# Altium schematic symbol library SamacSys.SchLib: 15 symbols
Pins are listed as number, name and electrical type; pins without a type are passive.

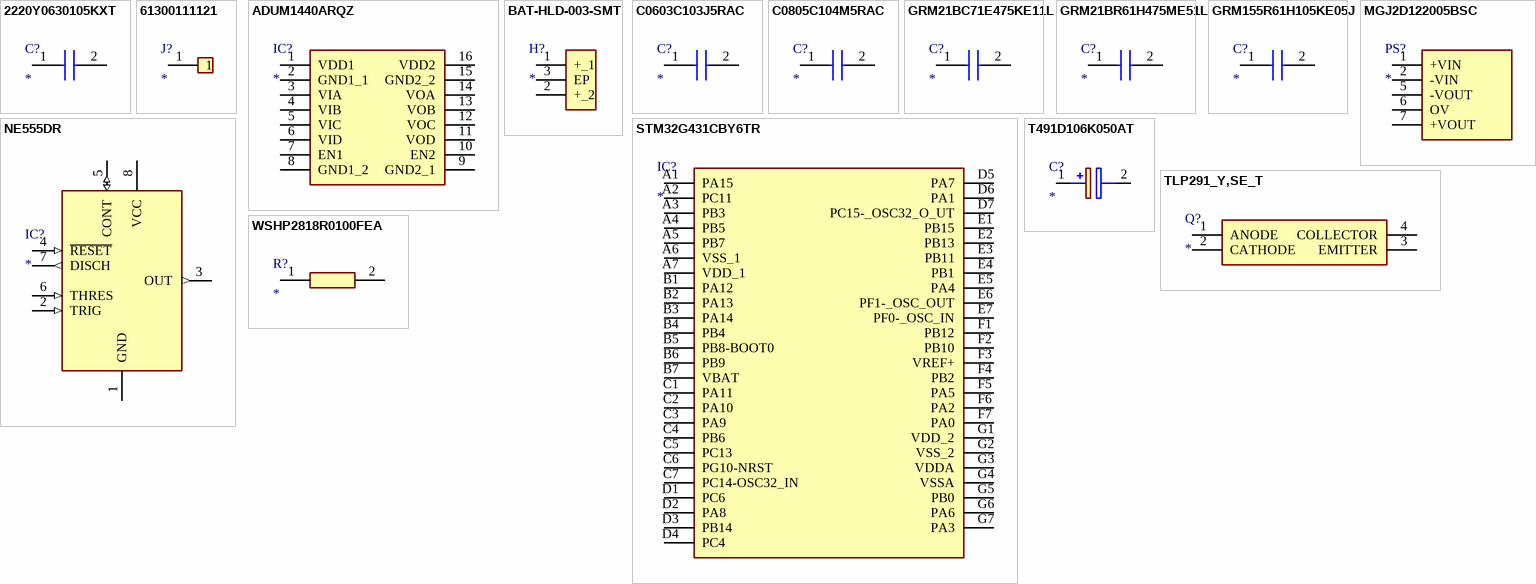
[diagram p0: symbols 2220Y0630105KXT to WSHP2818R0100FEA]

## 2220Y0630105KXT
designator C?
Capacitor; Manufacturer_Name: Knowles; Manufacturer_Part_Number: 2220Y0630105KXT; Datasheet Link: https://www.arrow.com/en/products/2220y0630105kxt/syfer-technology; Height: 4.2mm; Mouser Part Number: 843-2220Y0630105KX; Mouser Price/Stock: https://www.mouser.co.uk/ProductDetail/Knowles-Syfer/2220Y0630105KXT?qs=yIvl1B2wDi4MJafAlAFXPQ%3D%3D; Arrow Part Number: 2220Y0630105KXT; Arrow Price/Stock: https://www.arrow.com/en/products/2220y0630105kxt/syfer-technology
footprint CAPC5750X420N
pins: 1, 2

## 61300111121
designator J?
Connector; Manufacturer_Name: Wurth Elektronik; Manufacturer_Part_Number: 61300111121; Datasheet Link: https://katalog.we-online.de/em/datasheet/6130xx11121.pdf; Height: 8.89mm; Mouser Part Number: 710-61300111121; Mouser Price/Stock: https://www.mouser.co.uk/ProductDetail/Wurth-Elektronik/61300111121?qs=PhR8RmCirEaRH5Ck%252B2lRLQ%3D%3D
footprint 61300111121
pins: 1

## ADUM1440ARQZ
designator IC?
Integrated Circuit; Manufacturer_Name: Analog Devices; Manufacturer_Part_Number: ADUM1440ARQZ; Datasheet Link: https://componentsearchengine.com/Datasheets/2/ADUM1440ARQZ.pdf; Height: 1.75mm; Mouser Part Number: 584-ADUM1440ARQZ; Mouser Price/Stock: https://www.mouser.co.uk/ProductDetail/Analog-Devices/ADUM1440ARQZ?qs=613q%2FuFLIwR2r1IGUGbFKA%3D%3D; Arrow Part Number: ADUM1440ARQZ; Arrow Price/Stock: https://www.arrow.com/en/products/adum1440arqz/analog-devices?region=europe
footprint SOP64P600X175-16N
pins: 1 VDD1, 2 GND1_1, 3 VIA, 4 VIB, 5 VIC, 6 VID, 7 EN1, 8 GND1_2, 9 GND2_1, 10 EN2, 11 VOD, 12 VOC, 13 VOB, 14 VOA, 15 GND2_2, 16 VDD2

## BAT-HLD-003-SMT
designator H?
Hardware; Manufacturer_Name: TE Connectivity; Manufacturer_Part_Number: BAT-HLD-003-SMT; Datasheet Link: https://www.te.com/commerce/DocumentDelivery/DDEController?Action=srchrtrv&DocNm=C-BAT-HLD-003-SMT&DocType=Customer%20Drawing&DocLang=English&DocFormat=pdf&PartCntxt=BAT-HLD-003-SMT; Height: 4.1mm; Mouser Part Number: 712-BAT-HLD-003-SMT; Mouser Price/Stock: https://www.mouser.co.uk/ProductDetail/TE-Connectivity-Linx-Technologies/BAT-HLD-003-SMT?qs=TuK3vfAjtkVRZQIT6eTqjQ%3D%3D; Arrow Part Number: BAT-HLD-003-SMT; Arrow Price/Stock: https://www.arrow.com/en/products/bat-hld-003-smt/te-connectivity?utm_currency=USD&region=nac
footprint BATHLD003SMT
pins: 1 +_1, 2 +_2, 3 EP

## C0603C103J5RAC
designator C?
Capacitor; Manufacturer_Name: KEMET; Manufacturer_Part_Number: C0603C103J5RAC; Datasheet Link: https://www.kemet.com/specsheet/C0603C103J5RAC%7BBULK%7D; Height: 0.87mm; Mouser Part Number: 80-C0603C103J5RAC; Mouser Price/Stock: https://www.mouser.co.uk/ProductDetail/KEMET/C0603C103J5RAC?qs=Zjfhvh7dXTOjKlZBdCXdvg%3D%3D; Arrow Part Number: C0603C103J5RAC; Arrow Price/Stock: https://www.arrow.com/en/products/c0603c103j5rac/kemet-corporation?region=nac
footprint CAPC1608X87N
pins: 1, 2

## C0805C104M5RAC
designator C?
Capacitor; Manufacturer_Name: KEMET; Manufacturer_Part_Number: C0805C104M5RAC; Datasheet Link: https://connect.kemet.com:7667/gateway/IntelliData-ComponentDocumentation/1.0/download/specsheet/C0805C104M5RAC%7bBULK%7d; Height: 0.88mm; Mouser Part Number: 80-C0805C104M5RAC; Mouser Price/Stock: https://www.mouser.co.uk/ProductDetail/KEMET/C0805C104M5RAC?qs=VOOUd%252Bza08rWzt4y8eXMuQ%3D%3D; Arrow Part Number: C0805C104M5RAC; Arrow Price/Stock: https://www.arrow.com/en/products/c0805c104m5rac/kemet-corporation?utm_currency=USD&region=nac
footprint CAPC2012X88N
pins: 1, 2

## GRM21BC71E475KE11L
designator C?
Capacitor; Manufacturer_Name: Murata Electronics; Manufacturer_Part_Number: GRM21BC71E475KE11L; Datasheet Link: https://search.murata.co.jp/Ceramy/image/img/A01X/G101/ENG/GRM21BC71E475KE11-01A.pdf; Height: 1.45mm; Mouser Part Number: 81-GRM21BC71E475KE1L; Mouser Price/Stock: https://www.mouser.co.uk/ProductDetail/Murata-Electronics/GRM21BC71E475KE11L?qs=hNud%2FORuBR02yf5e5nzFMA%3D%3D; Arrow Part Number: GRM21BC71E475KE11L; Arrow Price/Stock: https://www.arrow.com/en/products/grm21bc71e475ke11l/murata-manufacturing
footprint CAPC2012X145N
pins: 1, 2

## GRM21BR61H475ME51L
designator C?
Capacitor; Manufacturer_Name: Murata Electronics; Manufacturer_Part_Number: GRM21BR61H475ME51L; Description: Multilayer Ceramic Capacitors MLCC - SMD/SMT 0805 4.7uF 50volts X5R 20%; Datasheet Link: https://search.murata.co.jp/Ceramy/image/img/A01X/G101/ENG/GRM21BR61H475ME51-01A.pdf; Height: 1.45mm; Mouser Part Number: 81-GRM21BR61H475M51L; Mouser Price/Stock: https://www.mouser.co.uk/ProductDetail/Murata-Electronics/GRM21BR61H475ME51L?qs=eeBpzGFlv%252B%2Fg0wAeHy0eJw%3D%3D; Arrow Part Number: GRM21BR61H475ME51L; Arrow Price/Stock: https://www.arrow.com/en/products/grm21br61h475me51l/murata-manufacturing?region=nac
footprint CAPC2012X145N
pins: 1, 2

## GRM155R61H105KE05J
designator C?
Capacitor; Manufacturer_Name: Murata Electronics; Manufacturer_Part_Number: GRM155R61H105KE05J; Datasheet Link: https://search.murata.co.jp/Ceramy/image/img/A01X/G101/ENG/GRM155R61H105KE05-01A.pdf; Height: 0.33mm; Mouser Part Number: 81-GRM155R61H105KE5J; Mouser Price/Stock: https://www.mouser.co.uk/ProductDetail/Murata-Electronics/GRM155R61H105KE05J?qs=d0WKAl%252BL4KZilUxqJ3m7lA%3D%3D; Arrow Part Number: GRM155R61H105KE05J; Arrow Price/Stock: https://www.arrow.com/en/products/grm155r61h105ke05j/murata-manufacturing?region=nac
footprint GRM15x
pins: 1, 2

## MGJ2D122005BSC
designator PS?
Power Supply; Manufacturer_Name: Murata Electronics; Manufacturer_Part_Number: MGJ2D122005BSC; Datasheet Link: https://www.murata.com/products/productdata/8822318989342/KDC-MGJ2B.pdf?1690255813000; Height: 12.75mm
footprint MGJ2D122005BSC
pins: 1 +VIN, 2 -VIN, 5 -VOUT, 6 OV, 7 +VOUT

## NE555DR
designator IC?
Integrated Circuit; Manufacturer_Name: Texas Instruments; Manufacturer_Part_Number: NE555DR; Datasheet Link: http://www.ti.com/lit/ds/symlink/ne555.pdf; Height: 1.75mm; Mouser Part Number: 595-NE555DR; Mouser Price/Stock: https://www.mouser.com/Search/Refine.aspx?Keyword=595-NE555DR; RS Part Number: 1218414; RS Price/Stock: http://uk.rs-online.com/web/p/products/1218414
footprint SOIC127P600X175-8N
pins: 1 GND (power), 2 TRIG (in), 3 OUT (out), 4 ~{RESET} (in), 5 CONT (io), 6 THRES (in), 7 DISCH (out), 8 VCC (power)

## STM32G431CBY6TR
designator IC?
Integrated Circuit; Manufacturer_Name: STMicroelectronics; Manufacturer_Part_Number: STM32G431CBY6TR; Datasheet Link: https://www.mouser.de/datasheet/2/389/dm00507199-1799366.pdf; Height: 0.59mm; Mouser Part Number: 511-STM32G431CBY6TR; Mouser Price/Stock: https://www.mouser.co.uk/ProductDetail/STMicroelectronics/STM32G431CBY6TR?qs=%252B6g0mu59x7LlQ7aZtJ8LeQ%3D%3D; Arrow Part Number: STM32G431CBY6TR; Arrow Price/Stock: https://www.arrow.com/en/products/stm32g431cby6tr/stmicroelectronics?utm_currency=USD&region=nac
footprint BGA49C40P7X7_313X315X59
pins: A1 PA15, A2 PC11, A3 PB3, A4 PB5, A5 PB7, A6 VSS_1, A7 VDD_1, B1 PA12, B2 PA13, B3 PA14, B4 PB4, B5 PB8-BOOT0, B6 PB9, B7 VBAT, C1 PA11, C2 PA10, C3 PA9, C4 PB6, C5 PC13, C6 PG10-NRST, C7 PC14-OSC32_IN, D1 PC6, D2 PA8, D3 PB14, D4 PC4, D5 PA7, D6 PA1, D7 PC15-_OSC32_O_UT, E1 PB15, E2 PB13, E3 PB11, E4 PB1, E5 PA4, E6 PF1-_OSC_OUT, E7 PF0-_OSC_IN, F1 PB12, F2 PB10, F3 VREF+, F4 PB2, F5 PA5, F6 PA2, F7 PA0, G1 VDD_2, G2 VSS_2, G3 VDDA, G4 VSSA, G5 PB0, G6 PA6, G7 PA3

## T491D106K050AT
designator C?
Capacitor Polarised; Manufacturer_Name: KEMET; Manufacturer_Part_Number: T491D106K050AT; Datasheet Link: https://content.kemet.com/datasheets/KEM_T2005_T491.pdf; Height: 3.1mm; Mouser Part Number: 80-T491D106K050; Mouser Price/Stock: https://www.mouser.co.uk/ProductDetail/KEMET/T491D106K050AT?qs=ohfon0hxEDckuN%2F%252ByCig%2FQ%3D%3D; Arrow Part Number: T491D106K050AT; Arrow Price/Stock: https://www.arrow.com/en/products/t491d106k050at/kemet-corporation?region=nac
footprint T491D
pins: 1 +, 2 -

## TLP291_Y,SE_T
designator Q?
Phototransistor; Manufacturer_Name: Toshiba; Manufacturer_Part_Number: TLP291(Y,SE(T; Datasheet Link: https://toshiba.semicon-storage.com/info/docget.jsp?did=12884&prodName=TLP291; Height: 2.2mm
footprint SOIC127P700X220-4N
pins: 1 ANODE, 2 CATHODE, 3 EMITTER, 4 COLLECTOR

## WSHP2818R0100FEA
designator R?
Resistor; Manufacturer_Name: Vishay; Manufacturer_Part_Number: WSHP2818R0100FEA; Datasheet Link: http://www.vishay.com/docs/30347/wshp2818.pdf; Height: 1mm; Mouser Part Number: 71-WSHP2818R0100FEA; Mouser Price/Stock: https://www.mouser.co.uk/ProductDetail/Vishay-Dale/WSHP2818R0100FEA?qs=WY0B%252Bpw29jNppYK03UGNJA%3D%3D; Arrow Part Number: WSHP2818R0100FEA; Arrow Price/Stock: https://www.arrow.com/en/products/wshp2818r0100fea/vishay?region=nac
footprint WSHP28181L000FEB
pins: 1, 2